# EAGLE library part LM324N (library LM324N)
OP Amp Quad GP ±15V/30V 14-Pin PDIP Tube
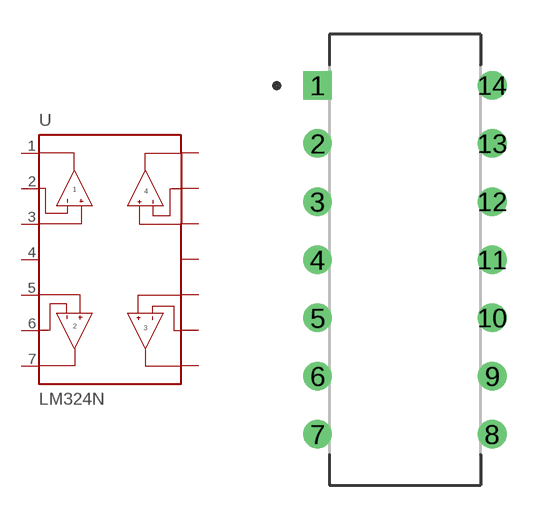
[diagram p0: symbol with the pads of DIP762W45P254L1969H508Q14; footprint DIP762W45P254L1969H508Q14]

Designator prefix U

## LM324N (Availability: Unavailable; Description: OP Amp Quad GP ±15V/30V 14-Pin PDIP Tube; MF: Texas Instruments; MP: LM324N; Package: DIP-14 STMicroelectronics; Price: None)  [DIP762W45P254L1969H508Q14]
1  1OUT  out
2  1IN-  in
3  1IN+  in
4  VCC  pwr
5  2IN+  in
6  2IN-  in
7  2OUT  out
8  3OUT  out
9  3IN-  in
10  3IN+  in
11  GND  pwr
12  4IN+  in
13  4IN-  in
14  4OUT  out

## Footprint DIP762W45P254L1969H508Q14 (pad centres in mm)
drill 0.74 pad 1.14 square: 1 -3.81,7.62
drill 0.74 pad 1.14: 2 -3.81,5.08; 3 -3.81,2.54; 4 -3.81,0; 5 -3.81,-2.54; 6 -3.81,-5.08; 7 -3.81,-7.62; 8 3.81,-7.62; 9 3.81,-5.08; 10 3.81,-2.54; 11 3.81,0; 12 3.81,2.54; 13 3.81,5.08; 14 3.81,7.62